# Altium footprint library Connecteur.PcbLib: 164 footprints (part 1 of 11)
Each footprint in its own frame and in the unit in brackets; x right, y up, seen from the top. Pads: shape width x height; smd on the part's side, far side on the other; paste and mask are expansions set on the pad; w line width, h text height; cw(c..) or ccw(c..) is an arc to the next point about the centre after c.
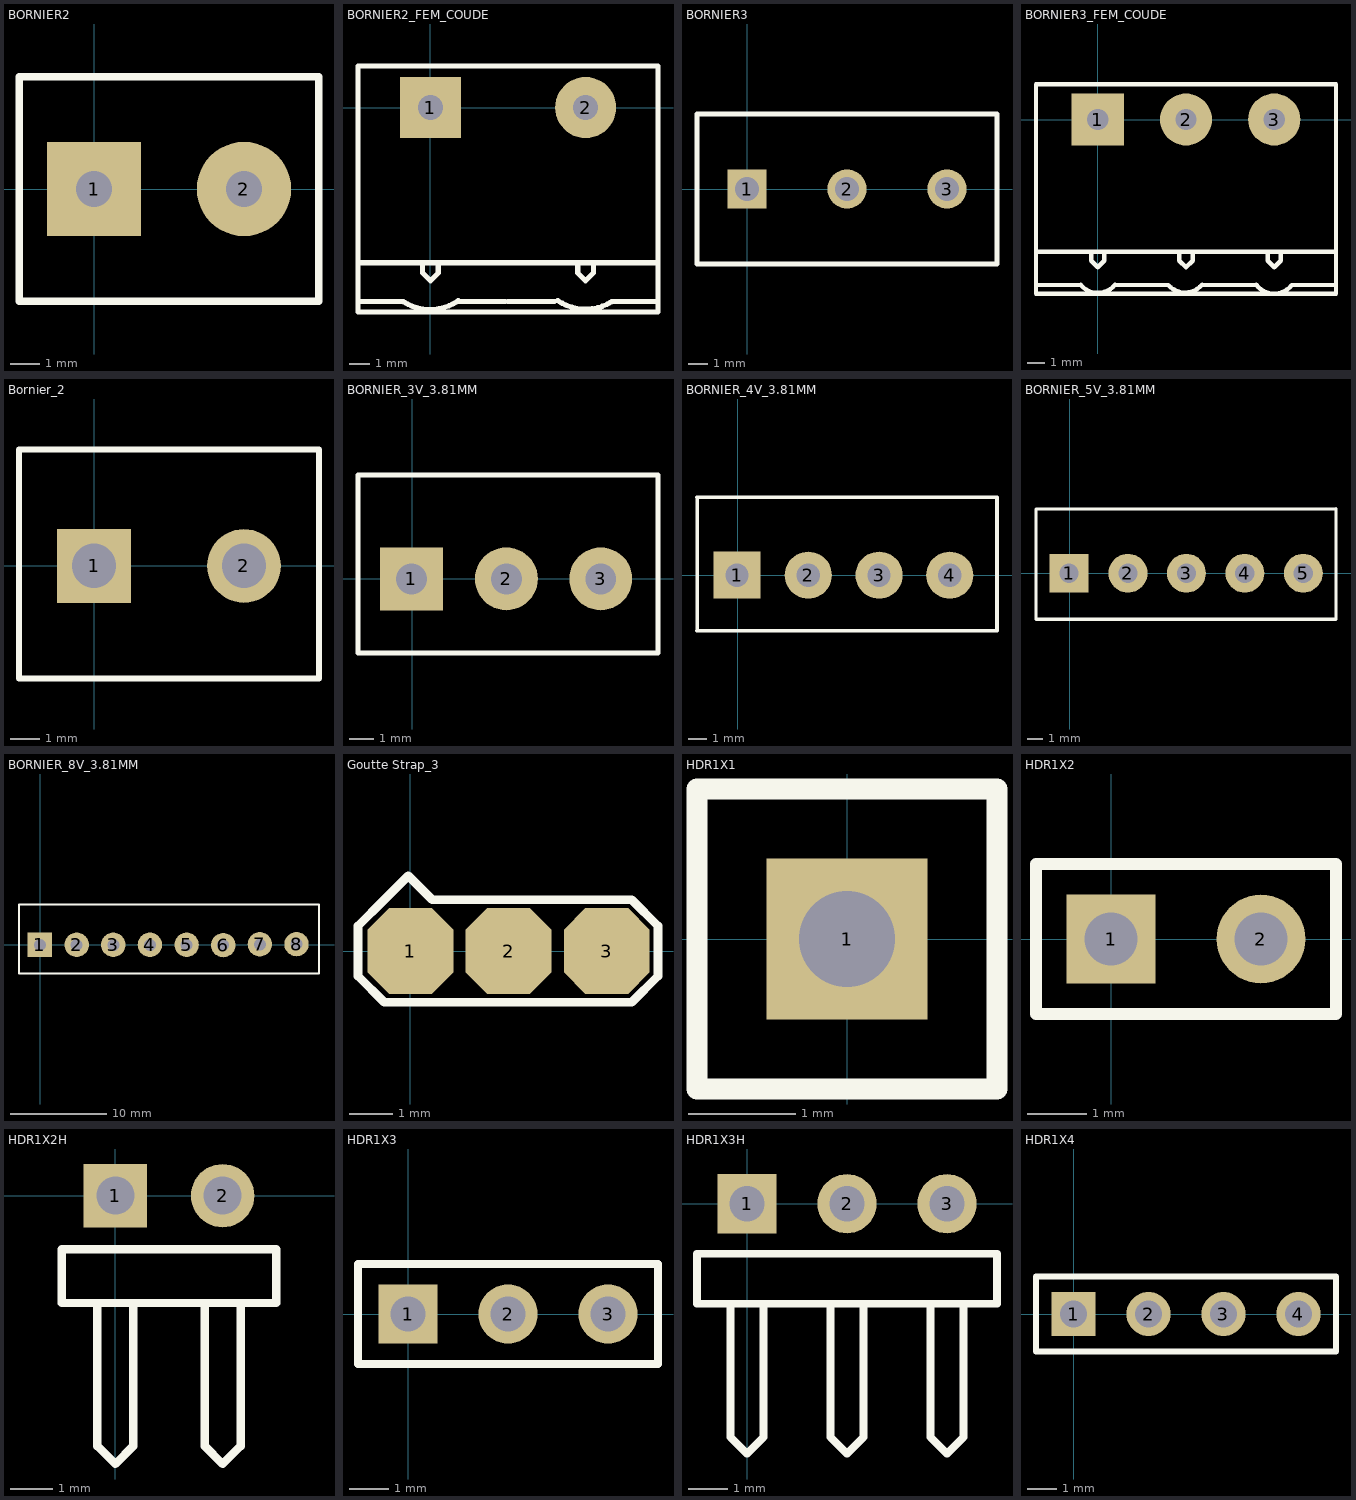
[diagram p0: the footprints below, top view; thin cyan lines are the x and y axes]

## BORNIER2 [mm] "Connector; Header; 2 Position; screw terminal blocks, Pin Spacing=5.08mm"
height 10
pads (2):
  rect 3.2x3.2 hole 1.219: 1(0,0)
  round 3.2 hole 1.219: 2(5.08,0)
Top Overlay:
  lines w0.254: -2.54,-3.81 -2.54,-1.27 -2.54,0.508 -2.54,3.81 0.635,3.81 7.62,3.81 7.62,-3.81 -2.54,-3.81
3D body: height 12, standoff -3.9, extent -3.565,-4.801 8.595,3.799

## BORNIER2_FEM_COUDE [mm] "Connector; Header; 2 Position; Right Angle; Female; Pin Spacing=5.08mm Green"
height 8.3
pads (2):
  rect 3x3 hole 1.219: 1(0,0)
  round 3 hole 1.219: 2(7.62,0)
Top Overlay:
  lines w0.254: -3.556,-7.62 8.636,-7.62 10.668,-7.62 11.176,-7.62 ; -3.429,-9.525 -1.323,-9.525 ; -1.323,-9.536 ccw(c-0.013,-7.493) 1.37,-9.486 ; -0.381,-7.62 -0.381,-8.128 0,-8.509 0.381,-8.128 0.381,-7.62 ; 1.397,-9.525 3.683,-9.525 ; 3.81,-9.525 6.096,-9.525 ; 6.253,-9.481 ccw(c7.62,-7.493) 8.899,-9.539 8.913,-9.525 10.668,-9.525 11.176,-9.525 ; 7.239,-7.62 7.239,-8.128 7.62,-8.509 8.001,-8.128 8.001,-7.62 ; -3.556,-10.033 8.636,-10.033 10.668,-10.033 11.176,-10.033 11.176,2.032 10.668,2.032 8.636,2.032 -3.556,2.032 -3.556,-10.033

## BORNIER3 [mm] "Connector; Header; 3 Position; screw terminal blocks, Pin Spacing=5.08mm"
height 10
pads (3):
  rect 2x2 hole 1.219: 1(0,0)
  round 2 hole 1.219: 2(5.08,0) 3(10.16,0)
Top Overlay:
  lines w0.254: -2.54,-3.8 12.7,-3.8 12.7,3.8 -2.54,3.8 -2.54,-3.8

## BORNIER3_FEM_COUDE [mm] "Connector; Header; 3 Position; Right Angle; Female; Pin Spacing=5.08mm Green"
height 8.3
pads (3):
  rect 3x3 hole 1.219: 1(0,0)
  round 3 hole 1.219: 2(5.08,0) 3(10.16,0)
Top Overlay:
  lines w0.254: -3.556,-7.62 13.716,-7.62 ; -0.983,-9.525 -3.556,-9.525 ; -0.979,-9.521 ccw(c0.002,-8.714) 0.994,-9.507 ; -0.381,-7.62 -0.381,-8.128 0,-8.509 0.381,-8.128 0.381,-7.62 ; 1.016,-9.525 4.064,-9.525 ccw(c5.028,-8.698) 6.008,-9.506 ; 4.699,-7.62 4.699,-8.128 5.08,-8.509 5.461,-8.128 5.461,-7.62 ; 6.031,-9.525 9.103,-9.525 ; 9.13,-9.506 ccw(c10.16,-8.763) 11.176,-9.525 13.589,-9.525 ; 9.779,-7.62 9.779,-8.128 10.16,-8.509 10.541,-8.128 10.541,-7.62 ; -3.556,-9.525 -3.556,-10.033 13.716,-10.033 13.716,2.032 -3.556,2.032 -3.556,-9.525

## Bornier_2 [mm]
height 6
pads (2):
  rect 2.5x2.5 hole 1.5: 1(0,0)
  round 2.5 hole 1.5: 2(5.08,0)
Top Overlay:
  lines w0.2: -2.54,-3.81 -2.54,3.937 7.62,3.937 7.62,-3.81 -2.54,-3.81
3D body: height 10, standoff -2.28, extent -2.956,-3.825 7.544,3.875

## BORNIER_3V_3.81MM [mm]
pads (3):
  rect 2.54x2.54 hole 1.25: 1(-0.025,0)
  round 2.54 hole 1.25: 2(3.81,0) 3(7.62,0)
Top Overlay:
  lines w0.2: -2.184,-3 9.931,-3 9.931,4.199 -2.184,4.191 ; -2.175,-3 -2.175,4.2
3D body: height 9.22, standoff -3.38, extent -2.6,-2.997 10.22,4.253

## BORNIER_4V_3.81MM [mm]
pads (4):
  rect 2.54x2.54 hole 1.25: 1(-0.025,0)
  round 2.54 hole 1.25: 2(3.81,0) 3(7.62,0) 4(11.43,0)
Top Overlay:
  lines w0.2: -2.184,-3 13.97,-3 13.97,4.202 -2.184,4.191 ; -2.175,-3 -2.175,4.2
3D body: height 9.2, standoff -3.4, extent -2.6,-2.997 14.03,4.253

## BORNIER_5V_3.81MM [mm]
pads (5):
  rect 2.54x2.54 hole 1.25: 1(-0.025,0)
  round 2.54 hole 1.25: 2(3.81,0) 3(7.62,0) 4(11.43,0) 5(15.24,0)
Top Overlay:
  lines w0.2: -2.184,-3 17.374,-3 17.374,4.204 -2.184,4.191 ; -2.175,-3 -2.175,4.2
3D body: height 9.22, standoff -3.38, extent -2.6,-2.972 17.84,4.278

## BORNIER_8V_3.81MM [mm]
pads (8):
  rect 2.54x2.54 hole 1.25: 1(-0.025,0)
  round 2.54 hole 1.25: 2(3.81,0) 3(7.62,0) 4(11.43,0) 5(15.24,0) 6(19.05,-0.025) 7(22.86,0.051) 8(26.67,0.076)
Top Overlay:
  lines w0.2: -2.184,-3 29.007,-3 29.007,4.212 -2.184,4.191 ; -2.175,-3 -2.175,4.2

## Goutte Strap_3 [mm] "3 Pads CMS Goutte Strap"
pads (3):
  oct 2x2 smd: 1(0,0) 2(2.286,0) 3(4.572,0)
Top Overlay:
  lines w0.2: -1.219,-0.584 -0.61,-1.194 5.156,-1.194 5.766,-0.584 5.766,0.584 5.156,1.194 0.508,1.194 -0.051,1.753 -0.61,1.194 -1.219,0.584 -1.219,-0.584

## HDR1X1 [mm]
pads (1):
  rect 1.5x1.5 hole 0.9: 1(0,0)
Top Overlay:
  lines w0.2: -1.4,-1.4 -1.4,1.4 1.4,1.4 1.4,-1.4 -1.4,-1.4
3D body: height 10.1, standoff -1.5, extent -1.27,-1.27 1.27,1.27

## HDR1X2 [mm]
pads (2):
  rect 1.5x1.5 hole 0.9: 1(0,0)
  round 1.5 hole 0.9: 2(2.54,0)
Top Overlay:
  lines w0.2: -1.27,-1.27 3.81,-1.27 3.81,1.27 -1.27,1.27 -1.27,-1.27
3D body: height 10.1, standoff -1.5, extent -1.27,-1.27 3.81,1.27

## HDR1X2H [mm]
pads (2):
  rect 1.5x1.5 hole 0.9: 1(0,0)
  round 1.5 hole 0.9: 2(2.54,0)
Top Overlay:
  lines w0.2: -0.423,-2.54 -0.423,-5.927 0,-6.35 0.423,-5.927 0.423,-2.54 ; 2.117,-2.54 2.117,-5.927 2.54,-6.35 2.963,-5.927 2.963,-2.54 ; -1.27,-2.54 -1.27,-1.27 3.81,-1.27 3.81,-2.54 -1.27,-2.54

## HDR1X3 [mm]
pads (3):
  rect 1.5x1.5 hole 0.9: 1(0,0)
  round 1.5 hole 0.9: 2(2.54,0) 3(5.08,0)
Top Overlay:
  lines w0.2: -1.27,-1.27 6.35,-1.27 6.35,1.27 -1.27,1.27 -1.27,-1.27
3D body: height 10.1, standoff -1.5, extent -1.27,-1.27 6.35,1.27

## HDR1X3H [mm]
pads (3):
  rect 1.5x1.5 hole 0.9: 1(0,0)
  round 1.5 hole 0.9: 2(2.54,0) 3(5.08,0)
Top Overlay:
  lines w0.2: -0.423,-2.54 -0.423,-5.927 0,-6.35 0.423,-5.927 0.423,-2.54 ; 2.117,-2.54 2.117,-5.927 2.54,-6.35 2.963,-5.927 2.963,-2.54 ; 4.657,-2.54 4.657,-5.927 5.08,-6.35 5.503,-5.927 5.503,-2.54 ; -1.27,-2.54 6.35,-2.54 6.35,-1.27 -1.27,-1.27 -1.27,-2.54

## HDR1X4 [mm]
pads (4):
  rect 1.5x1.5 hole 0.9: 1(0,0)
  round 1.5 hole 0.9: 2(2.54,0) 3(5.08,0) 4(7.62,0)
Top Overlay:
  lines w0.2: -1.27,-1.27 -1.27,1.27 8.89,1.27 8.89,-1.27 -1.27,-1.27